# Altium footprint library zenski10pin.PcbLib: 1 footprints
Each footprint in its own frame and in the unit in brackets; x right, y up, seen from the top. Pads: shape width x height; smd on the part's side, far side on the other; paste and mask are expansions set on the pad; w line width, h text height; cw(c..) or ccw(c..) is an arc to the next point about the centre after c.
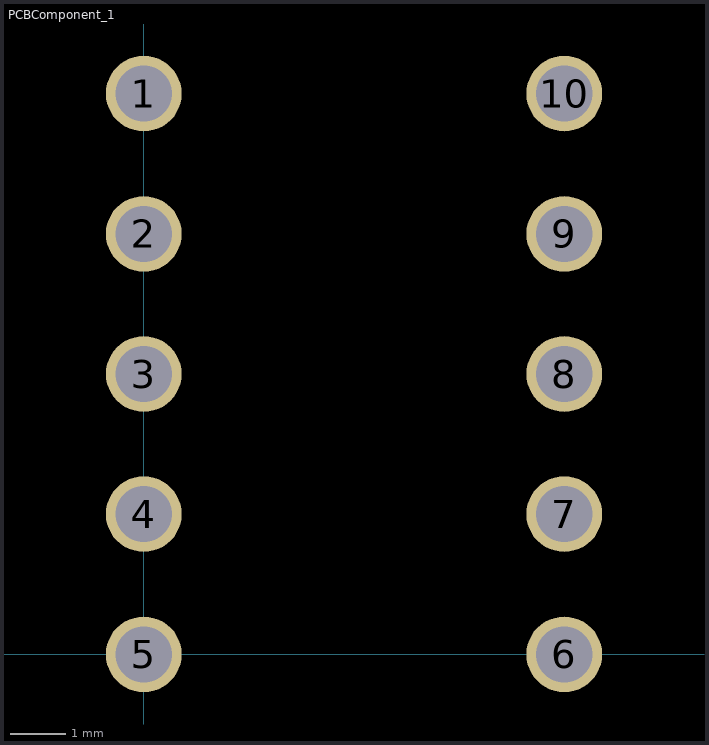
[diagram p0: the footprint, top view; thin cyan lines are the x and y axes]

## PCBComponent_1 [mil]
pads (10):
  round 54 hole 40: 1(0,400) 2(0,300) 3(0,200) 4(0,100) 5(0,0) 6(300,0) 7(300,100) 8(300,200) 9(300,300) 10(300,400)
3D body "PPPC051LFBNRC--3DModel-STEP-269445.STEP": height 335, standoff -126, extent 250,-60 350,460
3D body "PPPC051LFBNRC--3DModel-STEP-269445.STEP": height 335, standoff -126, extent -49.99,-60 50.01,460